# Altium integrated library 5650118-1.IntLib: 1 symbol
Pins are listed as number, name and electrical type; pins without a type are passive.

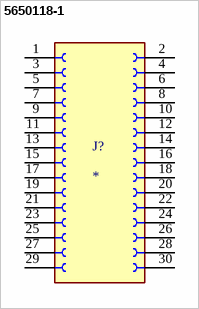
[diagram p0: symbol 5650118-1]

## 5650118-1
designator J?
Conn Card Edge SKT 30 POS 2.54mm Solder RA Thru-Hole Tray; MP: 5650118-1; MF: TE Connectivity; Value: *; Price: None; EU_RoHS_Compliance: Compliant; Package: None; Purchase-URL: https://pricing.snapeda.com/search/part/5650118-1/?ref=eda; Availability: In Stock; SnapEDA_Link: https://www.snapeda.com/parts/5650118-1/TE+Connectivity+AMP+Connectors/view-part/?ref=snap; Check_prices: https://www.snapeda.com/parts/5650118-1/TE+Connectivity+AMP+Connectors/view-part/?ref=eda
footprint TE_5650118-1
pins: 1, 2, 3, 4, 5, 6, 7, 8, 9, 10, 11, 12, 13, 14, 15, 16, 17, 18, 19, 20, 21, 22, 23, 24, 25, 26, 27, 28, 29, 30